# Altium schematic symbol library tps65235rukr.SchLib: 1 symbol
Pins are listed as number, name and electrical type; pins without a type are passive.

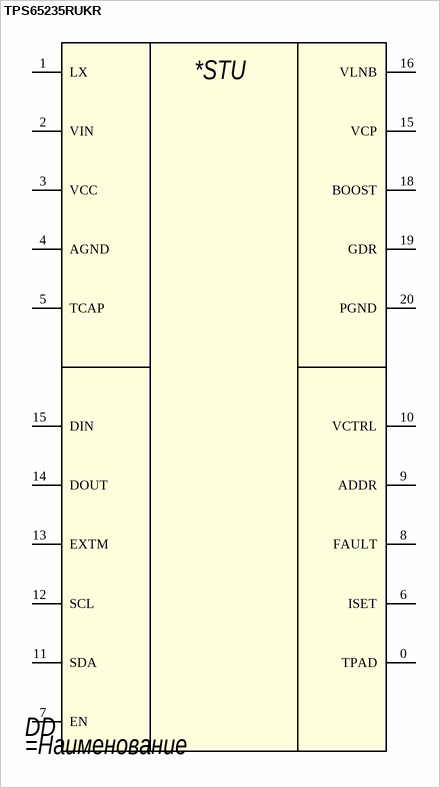
[diagram p0: symbol TPS65235RUKR]

## TPS65235RUKR
designator DD
=Описание
pins: 0 TPAD, 1 LX, 2 VIN, 3 VCC, 4 AGND, 5 TCAP, 6 ISET, 7 EN, 8 FAULT, 9 ADDR, 10 VCTRL, 11 SDA, 12 SCL, 13 EXTM, 14 DOUT, 15 VCP, 15 DIN, 16 VLNB, 18 BOOST, 19 GDR, 20 PGND
text: *STU